# Altium schematic symbol library Schlibv0.5.SchLib: 32 symbols
Pins are listed as number, name and electrical type; pins without a type are passive.

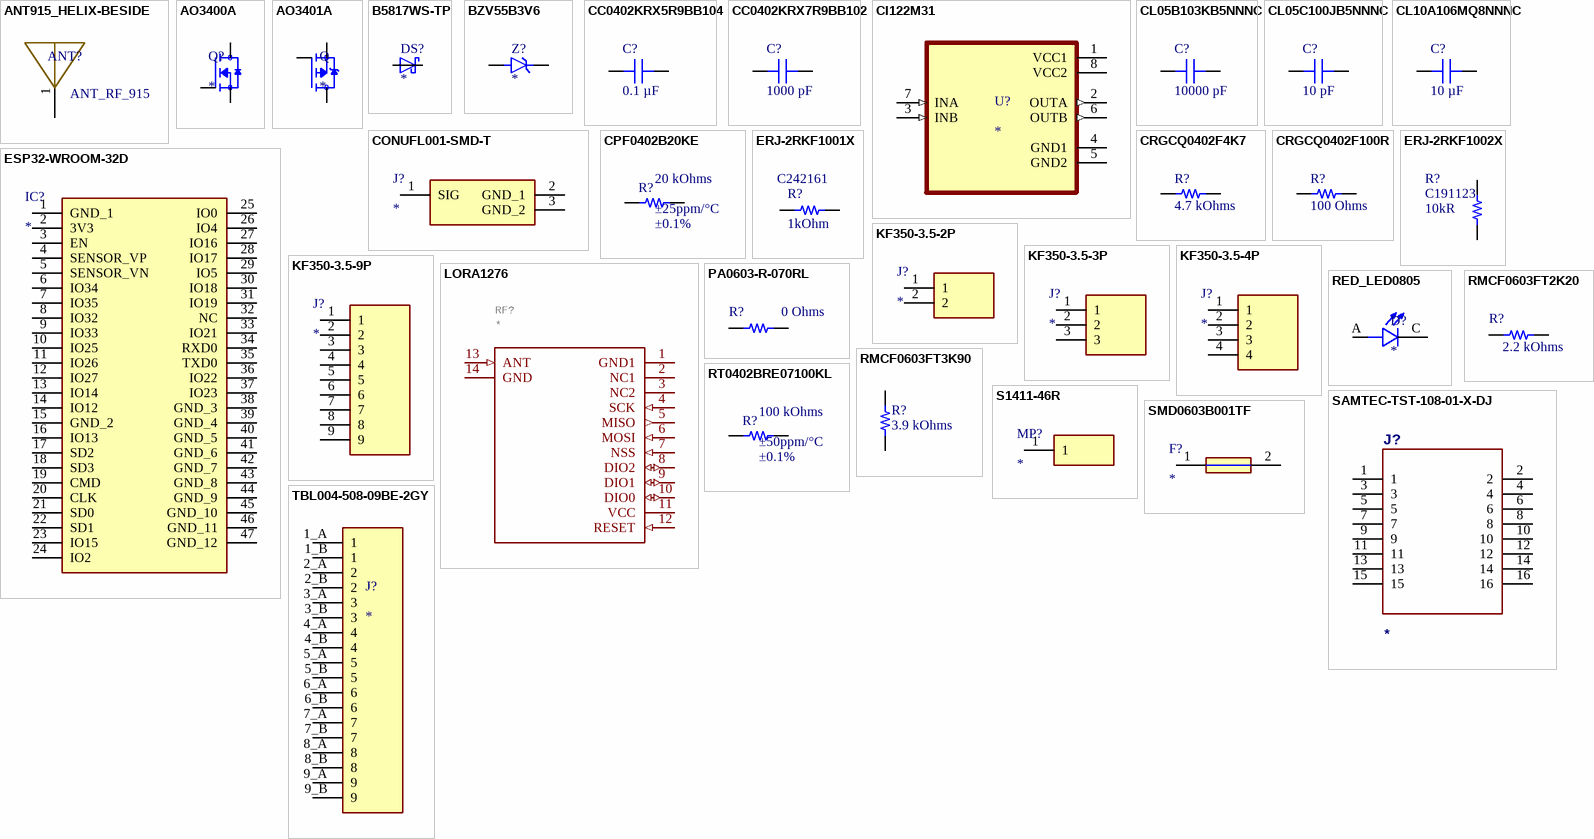
[diagram p0: symbols ANT915_HELIX-BESIDE to TBL004-508-09BE-2GY]

## ANT915_HELIX-BESIDE
designator ANT?, comment value ANT_RF_915  (hidden comment: Antena RF 916 MHz LoRa)
Antena usada para RF 915 MHz LoRa
footprint ANT915-HELIX_BESIDE (Antena Helicoidal 915 MHz LoRa De Lado)
pins: 1

## AO3400A
designator Q?
Trans MOSFET N-CH 30V 5.7A 3-Pin SOT-23; MP: AO3400A; Package: None; Price: None; Availability: Unavailable; Value: *
footprint SOT-23-3
pins: 1 G, 2 S, 3 D

## AO3401A
designator Q
P-Channel 30V 4A _Ta_ 1.4W _Ta_ Surface Mount SOT-23-3L; MF: Alpha &; MP: AO3401A; Package: SOT-23 Alpha &amp; Omega Semiconductor; Value: *; Availability: Unavailable; SnapEDA_Link: https://www.snapeda.com/parts/AO3401A/Alpha%20&%20Omega%20Semiconductor%20Inc./view-part/227978/?ref=snap; Price: None
footprint SOT-23-3
pins: 1 G, 2 S, 3 D

## B5817WS-TP
designator DS?
Diode Schottky 20 V 1A Surface Mount SOD-323; MF: Micro Commercial; MP: B5817WS-TP; Purchase-URL: https://pricing.snapeda.com/search/part/B5817WS-TP/?ref=eda; Value: *; SnapEDA_Link: https://www.snapeda.com/parts/B5817WS-TP/Micro+Commercial/view-part/?ref=snap; Package: SOD-323 Micro Commercial Co; Price: None; Availability: In Stock; Check_prices: https://www.snapeda.com/parts/B5817WS-TP/Micro+Commercial/view-part/?ref=eda
footprint SOD-323
pins: AN A, CATH C

## BZV55B3V6
designator Z?
Diode Zener 3V6 MMELF; MP: BZV55B3V6_L1G; Availability: Unavailable; Value: *; Package: None; Price: None
footprint MMELF-2
pins: A, C K

## CC0402KRX5R9BB104
designator C?, comment 0.1 µF
CAP CER 0.1UF 50V X5R 0402; Part Number: CC0402KRX5R9BB104; manufacturer: Yageo; Tolerance: ±10%; Applications: General Purpose; Capacitance: 0.1 µF; componentlink1description: Datasheet; componentlink1url: https://www.yageo.com/upload/media/product/productsearch/datasheet/mlcc/UPY-GPHC_X5R_4V-to-50V_25.pdf; componentlink2description: DigiKey Link; componentlink2url: https://www.digikey.com/en/products/detail/yageo/CC0402KRX5R9BB104/5883338; Device Package: 0402 (1005 Metric); lastupdated: 01/09/2022 12:30:20; Lifecycle Status: Active; Minimum Order: 1; Mounting Type: Surface Mount, MLCC; Operating Temperature: -55°C ~ 85°C; Package / Case: 0402 (1005 Metric); packaging: TapeAndReel; partid: 12665; Part Status: Active; price: 0.01; series: CC; Size / Dimension: 0.039" L x 0.020" W (1.00mm x 0.50mm); Supplier 1: DigiKey; Supplier Part Number 1: 311-3342-1-ND; Temperature Coefficient: X5R; Thickness (Max): 0.022" (0.55mm); Voltage - Rated: 50V; Value: 0.1 µF
footprint CAP 0402_1005 (Chip Capacitor, 2-Leads, Body 1.02x0.51mm, IPC Medium Density)
pins: 1, 2

## CC0402KRX7R9BB102
designator C?, comment 1000 pF
CAP CER 1000PF 50V X7R 0402; Part Number: CC0402KRX7R9BB102; manufacturer: Yageo; Tolerance: ±10%; Applications: General Purpose; Capacitance: 1000 pF; componentlink1description: Datasheet; componentlink1url: https://www.yageo.com/upload/media/product/productsearch/datasheet/mlcc/UPY-GPHC_X7R_6.3V-to-50V_18.pdf; componentlink2description: DigiKey Link; componentlink2url: https://www.digikey.com/en/products/detail/yageo/CC0402KRX7R9BB102/302770; Device Package: 0402 (1005 Metric); lastupdated: 01/09/2022 12:30:42; Lifecycle Status: Active; Minimum Order: 1; Mounting Type: Surface Mount, MLCC; Operating Temperature: -55°C ~ 125°C; Package / Case: 0402 (1005 Metric); packaging: CutTape; partid: 4791; Part Status: Active; price: 0.01; series: CC; Size / Dimension: 0.039" L x 0.020" W (1.00mm x 0.50mm); Supplier 1: DigiKey; Supplier Part Number 1: 311-1036-1-ND; Temperature Coefficient: X7R; Thickness (Max): 0.022" (0.55mm); Voltage - Rated: 50V; Value: 1000 pF
footprint CAP 0402_1005 (Chip Capacitor, 2-Leads, Body 1.02x0.51mm, IPC Medium Density)
pins: 1, 2

## CI122M31
designator U?
Dual-channel, 1/1, 10-Mbps digital isolator 8-SOIC -40 to 125; MP: ISO7421D; MF: Texas Instruments; Package: SOIC-8 Texas Instruments; Check_prices: https://www.snapeda.com/parts/ISO7421D/Texas%20Instruments/view-part/360032/?ref=eda; Value: *; SnapEDA_Link: https://www.snapeda.com/parts/ISO7421D/Texas%20Instruments/view-part/360032/?ref=snap; Availability: Good; Price: None; Purchase-URL: https://pricing.snapeda.com/search/part/ISO7421D/?ref=eda
footprint SOIC127P599X175-8N
pins: 1 VCC1 (power), 2 OUTA (out), 3 INB (in), 4 GND1 (power), 5 GND2 (power), 6 OUTB (out), 7 INA (in), 8 VCC2 (power)

## CL05B103KB5NNNC
designator C?, comment 10000 pF
CAP CER 10000PF 50V X7R 0402; Part Number: CL05B103KB5NNNC; manufacturer: Samsung Electro-Mechanics; Tolerance: ±10%; Applications: General Purpose; Capacitance: 10000 pF; componentlink1description: Datasheet; componentlink1url: http://www.samsungsem.com/kr/support/product-search/mlcc/CL05B103KB5NNNC.jsp; componentlink2description: DigiKey Link; componentlink2url: https://www.digikey.com/en/products/detail/samsung-electro-mechanics/CL05B103KB5NNNC/3886686; Device Package: 0402 (1005 Metric); lastupdated: 01/09/2022 12:30:39; Lifecycle Status: Active; Minimum Order: 1; Mounting Type: Surface Mount, MLCC; Operating Temperature: -55°C ~ 125°C; Package / Case: 0402 (1005 Metric); packaging: CutTape; partid: 6060; Part Status: Active; price: 0.01; series: CL; Size / Dimension: 0.039" L x 0.020" W (1.00mm x 0.50mm); Supplier 1: DigiKey; Supplier Part Number 1: 1276-1028-1-ND; Temperature Coefficient: X7R; Thickness (Max): 0.022" (0.55mm); Voltage - Rated: 50V; Value: 10000 pF
footprint CAP 0402_1005 (Chip Capacitor, 2-Leads, Body 1.02x0.51mm, IPC Medium Density)
pins: 1, 2

## CL05C100JB5NNNC
designator C?, comment 10 pF
CAP CER 10PF 50V C0G/NP0 0402; Part Number: CL05C100JB5NNNC; manufacturer: Samsung Electro-Mechanics; Temperature Coefficient: C0G, NP0; Tolerance: ±5%; Applications: General Purpose; Capacitance: 10 pF; componentlink1description: Datasheet; componentlink1url: http://www.samsungsem.com/kr/support/product-search/mlcc/CL05C100JB5NNNC.jsp; componentlink2description: DigiKey Link; componentlink2url: https://www.digikey.com/en/products/detail/samsung-electro-mechanics/CL05C100JB5NNNC/3886797; Device Package: 0402 (1005 Metric); lastupdated: 01/09/2022 12:30:39; Lifecycle Status: Active; Minimum Order: 1; Mounting Type: Surface Mount, MLCC; Operating Temperature: -55°C ~ 125°C; Package / Case: 0402 (1005 Metric); packaging: TapeAndReel; partid: 6120; Part Status: Active; price: 0.01; series: CL; Size / Dimension: 0.039" L x 0.020" W (1.00mm x 0.50mm); Supplier 1: DigiKey; Supplier Part Number 1: 1276-1139-1-ND; Thickness (Max): 0.022" (0.55mm); Voltage - Rated: 50V; Value: 10 pF
footprint CAP 0402_1005 (Chip Capacitor, 2-Leads, Body 1.02x0.51mm, IPC Medium Density)
pins: 1, 2

## CL10A106MQ8NNNC
designator C?, comment 10 µF
CAP CER 10UF 6.3V X5R 0603; Part Number: CL10A106MQ8NNNC; manufacturer: Samsung Electro-Mechanics; Tolerance: ±20%; Applications: General Purpose; Capacitance: 10 µF; componentlink1description: Datasheet; componentlink1url: http://www.samsungsem.com/kr/support/product-search/mlcc/CL10A106MQ8NNNC.jsp; componentlink2description: DigiKey Link; componentlink2url: https://www.digikey.com/en/products/detail/samsung-electro-mechanics/CL10A106MQ8NNNC/3886777; Device Package: 0603 (1608 Metric); lastupdated: 01/09/2022 12:33:58; Lifecycle Status: Active; Minimum Order: 1; Mounting Type: Surface Mount, MLCC; Operating Temperature: -55°C ~ 85°C; Package / Case: 0603 (1608 Metric); packaging: TapeAndReel; partid: 39822; Part Status: Active; price: 0.01; series: CL; Size / Dimension: 0.063" L x 0.031" W (1.60mm x 0.80mm); Supplier 1: DigiKey; Supplier Part Number 1: 1276-1119-1-ND; Temperature Coefficient: X5R; Thickness (Max): 0.035" (0.90mm); Voltage - Rated: 6.3V; Value: 10 µF
footprint CAP 1206_3216 (Chip Capacitor, 2-Leads, Body 3.25x1.60mm, IPC Medium Density)
pins: 1, 2

## CONUFL001-SMD-T
designator J?
Connector; Manufacturer_Name: Linx Technologies; Manufacturer_Part_Number: CONUFL001-SMD-T; Datasheet Link: https://componentsearchengine.com//CONUFL001-SMD-T.pdf; Mouser2 Part Number: 712-CONUFL001-SMD-T; Mouser2 Price/Stock: https://www.mouser.com/Search/Refine.aspx?Keyword=712-CONUFL001-SMD-T
footprint CONUFL001-SMD
pins: 1 SIG, 2 GND_1, 3 GND_2

## CPF0402B20KE
designator R?, comment Temperature Coefficient: ±25ppm/°C  Tolerance: ±0.1%  (hidden comment: 20 kOhms)
RES SMD 20K OHM 0.1% 1/16W 0402; Part Number: CPF0402B20KE; Manufacturer: TE Connectivity Passive Product; Power (Watts): 0.063W, 1/16W; ComponentLink1Description: Datasheet; ComponentLink1URL: https://www.te.com/commerce/DocumentDelivery/DDEController?Action=srchrtrv&DocNm=1773200&DocType=DS&DocLang=English; ComponentLink2Description: DigiKey Link; ComponentLink2URL: https://www.digikey.com/en/products/detail/te-connectivity-passive-product/CPF0402B20KE/2381755; Composition: Thin Film; Device Package: 0402 (1005 Metric); Height - Seated (Max): 0.014" (0.35mm); LastUpdated: 01/09/2022 12:46:57; Lifecycle Status: Active; Minimum Order: 1; Number of Terminations: 2; Operating Temperature: -55°C ~ 155°C; Package / Case: 0402 (1005 Metric); Packaging: TapeAndReel; PartId: 2476; Part Status: Active; Price: 0.10; Resistance: 20 kOhms; Series: CPF, Neohm; Size / Dimension: 0.039" L x 0.020" W (1.00mm x 0.50mm); Supplier 1: DigiKey; Supplier Part Number 1: A119914CT-ND; Supplier Device Package: 0402; Value: 20 kOhms
footprint RES0402PRECISION
pins: 1, 2

## CRGCQ0402F4K7
designator R?, comment 4.7 kOhms
RES 4.7K OHM 1% 1/16W 0402; Part Number: CRGCQ0402F4K7; Manufacturer: TE Connectivity Passive Product; Power (Watts): 0.063W, 1/16W; Temperature Coefficient: ±100ppm/°C; ComponentLink1Description: Datasheet; ComponentLink1URL: https://www.te.com/commerce/DocumentDelivery/DDEController?Action=srchrtrv&DocNm=1773204-3&DocType=DS&DocLang=English; ComponentLink2Description: DigiKey Link; ComponentLink2URL: https://www.digikey.com/en/products/detail/te-connectivity-passive-product/CRGCQ0402F4K7/8576237; Composition: Thick Film; Device Package: 0402 (1005 Metric); Features: Automotive AEC-Q200, Moisture Resistant; Height - Seated (Max): 0.016" (0.40mm); LastUpdated: 01/09/2022 12:45:50; Lifecycle Status: Active; Minimum Order: 1; Number of Terminations: 2; Operating Temperature: -55°C ~ 155°C; Package / Case: 0402 (1005 Metric); Packaging: CutTape; PartId: 20629; Part Status: Active; Price: 0.01; Ratings: AEC-Q200; Resistance: 4.7 kOhms; Series: CRGCQ; Size / Dimension: 0.039" L x 0.020" W (1.00mm x 0.50mm); Supplier 1: DigiKey; Supplier Part Number 1: A129635CT-ND; Supplier Device Package: 0402; Tolerance: ±1%; Value: 4.7 kOhms
footprint RES0402TXT
pins: 1, 2

## CRGCQ0402F100R
designator R?, comment 100 Ohms
RES 100 OHM 1% 1/16W 0402; Part Number: CRGCQ0402F100R; Manufacturer: TE Connectivity Passive Product; Power (Watts): 0.063W, 1/16W; Temperature Coefficient: ±200ppm/°C; ComponentLink1Description: Datasheet; ComponentLink1URL: https://www.te.com/commerce/DocumentDelivery/DDEController?Action=srchrtrv&DocNm=1773204-3&DocType=DS&DocLang=English; ComponentLink2Description: DigiKey Link; ComponentLink2URL: https://www.digikey.com/en/products/detail/te-connectivity-passive-product/CRGCQ0402F100R/8576217; Composition: Thick Film; Device Package: 0402 (1005 Metric); Features: Automotive AEC-Q200, Moisture Resistant; Height - Seated (Max): 0.016" (0.40mm); LastUpdated: 01/09/2022 12:45:49; Lifecycle Status: Active; Minimum Order: 1; Number of Terminations: 2; Operating Temperature: -55°C ~ 155°C; Package / Case: 0402 (1005 Metric); Packaging: CutTape; PartId: 20683; Part Status: Active; Price: 0.01; Ratings: AEC-Q200; Series: CRGCQ; Size / Dimension: 0.039" L x 0.020" W (1.00mm x 0.50mm); Supplier 1: DigiKey; Supplier Part Number 1: A129615CT-ND; Supplier Device Package: 0402; Tolerance: ±1%; Resistance: 100 Ohms; Value: 100 Ohms
footprint RES0402TXT
pins: 1, 2

## ERJ-2RKF1001X
designator R?  Supplier Part Number 1: C242161  Resistance: 1kOhm
RES SMD 1K OHM  50V 1% 1/10W 0402; Manufacturer 1: Panasonic; Manufacturer Part Number 1: ERJ-2RKF1001X; Category 1: Chip SMD Resistors; Power Rating: 100mW; Temperature Coefficient: 100ppm/°C; ComponentLink1Description: Datasheet; ComponentLink1URL: https://www.te.com/commerce/DocumentDelivery/DDEController?Action=srchrtrv&DocNm=1773204-3&DocType=DS&DocLang=English; ComponentLink2Description: DigiKey Link; ComponentLink2URL: https://www.digikey.com/en/products/detail/te-connectivity-passive-product/CRGCQ0402F820R/8576228; Supplier 1: LCSC; RoHS: Yes; Stock 1: 501400; Pricing 1: 50=0,006100, 500=0,004900, 1500=0,004200, 5000=0,003700, 25000=0,003400, 50000=0,003200 (AUD); Mount: Surface Mount; Case/Package: 0402; Number of Pins: 2; Case Code (Imperial): 0402; Case Code (Metric): 1005; Contact Plating: Tin; Min Operating Temperature: -55°C; Max Operating Temperature: 155°C; Tolerance: 1%; Packaging: Tape and Reel; Voltage Rating: 50V; Termination: SMD/SMT; Resistor Type: Thick Film; Number of Terminations: 2; Max Power Dissipation: 100mW; Series: ERJ; Resistance Tolerance: 1%; Construction: Rectangular; Package Quantity: 1; Features: Automotive AEC-Q200; Technology: THICK FILM; Voltage Rating (DC): 50V; Working Voltage: 50V; Length: 1mm; Width: 0.5mm; Height: 0.35mm; Depth: 0.5mm; Radiation Hardening: No; REACH SVHC: Yes; Military Standard: Not; RoHS Compliant: Yes; Lead Free: Lead Free
footprint RES0402TXT
pins: 1, 2

## ERJ-2RKF1002X
designator R?  Supplier Part Number 1: C191123  Resistance: 10kR
Res Thick Film 0402 10K Ohm 1% 1/10W ±100ppm/°C Molded SMD Punched Carrier T/R; Manufacturer 1: Panasonic; Manufacturer Part Number 1: ERJ-2RKF1002X; Category 1: Chip SMD Resistors; Power Rating: 100mW; Voltage Rating: 50V; ComponentLink1Description: Datasheet; ComponentLink1URL: https://www.te.com/commerce/DocumentDelivery/DDEController?Action=srchrtrv&DocNm=1773204-3&DocType=DS&DocLang=English; ComponentLink2Description: DigiKey Link; ComponentLink2URL: https://www.digikey.com/en/products/detail/te-connectivity-passive-product/CRGCQ0402F10K/8576241; Supplier 1: LCSC; RoHS: Yes; Stock 1: 285350; Pricing 1: 50=0,006800, 500=0,005400, 1500=0,004700, 5000=0,004200, 25000=0,003800, 50000=0,003600 (AUD); Mount: Surface Mount; Case/Package: 0402; Number of Pins: 2; Case Code (Metric): 1005; Case Code (Imperial): 0402; Contact Plating: Tin; Min Operating Temperature: -55°C; Max Operating Temperature: 155°C; Tolerance: 1%; Packaging: Tape and Reel; Package Quantity: 1; Resistor Type: Thick Film; Number of Terminations: 2; Termination: SMD/SMT; Temperature Coefficient: 100ppm/°C; Max Power Dissipation: 100mW; Voltage Rating (DC): 50V; Features: Automotive AEC-Q200; Length: 0.039inch; Width: 0.02inch; Height: 0.35mm; Depth: 0.5mm; Height - Seated (Max): 0.016inch; Radiation Hardening: No; REACH SVHC: No SVHC; Military Standard: Not; Lead Free: Lead Free; RoHS Compliant: Yes; ComponentLink3URL: https://datasheet.ciiva.com/11821/0900766b80f80784-11821171.pdf?src-supplier=RSComponents; ComponentLink3Description: https://datasheet.ciiva.com/11821/0900766b80f80784-11821171.pdf?src-supplier=RSComponents; ComponentLink4URL: https://datasheet.ciiva.com/27055/1987020-27055643.pdf?src-supplier=Jameco; ComponentLink4Description: https://datasheet.ciiva.com/27055/1987020-27055643.pdf?src-supplier=Jameco; ComponentLink5URL: https://datasheet.ciiva.com/43467/1678782-43467402.pdf?src-supplier=Farnell; ComponentLink5Description: https://datasheet.ciiva.com/43467/1678782-43467402.pdf?src-supplier=Farnell; ComponentLink6URL: https://datasheet.ciiva.com/28514/1678782-28514185.pdf?src-supplier=Element14; ComponentLink6Description: https://datasheet.ciiva.com/28514/1678782-28514185.pdf?src-supplier=Element14; ComponentLink7URL: https://datasheet.ciiva.com/24023/aoa0000ce2-24023017.pdf?src-supplier=Mouser; ComponentLink7Description: https://datasheet.ciiva.com/24023/aoa0000ce2-24023017.pdf?src-supplier=Mouser; ComponentLink8URL: https://datasheet.ciiva.com/16782/70260748-16782590.pdf?src-supplier=Allied+Electronics; ComponentLink8Description: https://datasheet.ciiva.com/16782/70260748-16782590.pdf?src-supplier=Allied+Electronics; ComponentLink9URL: https://datasheet.ciiva.com/16786/70260748-16786734.pdf?src-supplier=Allied+Electronics; ComponentLink9Description: https://datasheet.ciiva.com/16786/70260748-16786734.pdf?src-supplier=Allied+Electronics; ComponentLink10URL: https://datasheet.ciiva.com/9194/aoa0000ce2-9194142.pdf?src-supplier=Avnet; ComponentLink10Description: https://datasheet.ciiva.com/9194/aoa0000ce2-9194142.pdf?src-supplier=Avnet; ComponentLink11URL: https://datasheet.ciiva.com/16199/aoa0000ce2-16199478.pdf?src-supplier=Future+Electronics; ComponentLink11Description: https://datasheet.ciiva.com/16199/aoa0000ce2-16199478.pdf?src-supplier=Future+Electronics
footprint RES0402TXT
pins: 1, 2

## ESP32-WROOM-32D
designator IC?
Integrated Circuit MCU; Manufacturer_Name: Espressif Systems; Manufacturer_Part_Number: ESP32-WROOM-32D (4MB); Datasheet Link: https://componentsearchengine.com/Datasheets/1/ESP32-WROOM-32D (4MB).pdf; Height: 3.2mm; Mouser Part Number: 356-ESP32WROOM-32D; Mouser Price/Stock: https://www.mouser.co.uk/ProductDetail/Espressif-Systems/ESP32-WROOM-32D-4MB?qs=GBLSl2AkirvkALo4fyKM5Q%3D%3D
footprint ESP32WROOM32D
pins: 1 GND_1, 2 3V3, 3 EN, 4 SENSOR_VP, 5 SENSOR_VN, 6 IO34, 7 IO35, 8 IO32, 9 IO33, 10 IO25, 11 IO26, 12 IO27, 13 IO14, 14 IO12, 15 GND_2, 16 IO13, 17 SD2, 18 SD3, 19 CMD, 20 CLK, 21 SD0, 22 SD1, 23 IO15, 24 IO2, 25 IO0, 26 IO4, 27 IO16, 28 IO17, 29 IO5, 30 IO18, 31 IO19, 32 NC, 33 IO21, 34 RXD0, 35 TXD0, 36 IO22, 37 IO23, 38 GND_3, 39 GND_4, 40 GND_5, 41 GND_6, 42 GND_7, 43 GND_8, 44 GND_9, 45 GND_10, 46 GND_11, 47 GND_12

## KF350-3.5-2P
designator J?
Connector; Manufacturer_Name: CIXI KEFA ELECTRONICS; Manufacturer_Part_Number: KF350-3.5-3P; Datasheet Link: https://datasheet.lcsc.com/szlcsc/2001152331_Cixi-Kefa-Elec-KF350-3-5-3P_C474893.pdf; Height: 8.8mm
footprint KF350-3.5-2P
pins: 1, 2

## KF350-3.5-3P
designator J?
Connector; Manufacturer_Name: CIXI KEFA ELECTRONICS; Manufacturer_Part_Number: KF350-3.5-3P; Datasheet Link: https://datasheet.lcsc.com/szlcsc/2001152331_Cixi-Kefa-Elec-KF350-3-5-3P_C474893.pdf; Height: 8.8mm
footprint KF350-3.5-3P
pins: 1, 2, 3

## KF350-3.5-4P
designator J?
Connector; Manufacturer_Name: CIXI KEFA ELECTRONICS; Manufacturer_Part_Number: KF350-3.5-3P; Datasheet Link: https://datasheet.lcsc.com/szlcsc/2001152331_Cixi-Kefa-Elec-KF350-3-5-3P_C474893.pdf; Height: 8.8mm
footprint KF350-3.5-4P
pins: 1, 2, 3, 4

## KF350-3.5-9P
designator J?
Connector; Manufacturer_Name: CIXI KEFA ELECTRONICS; Manufacturer_Part_Number: KF350-3.5-3P; Datasheet Link: https://datasheet.lcsc.com/szlcsc/2001152331_Cixi-Kefa-Elec-KF350-3-5-3P_C474893.pdf; Height: 8.8mm
footprint KF350-3.5-9P
pins: 1, 2, 3, 4, 5, 6, 7, 8, 9

## LORA1276
designator RF?
RF Module LoRa; GateName_1: G$1; SymbolName_1: LORA1276_BOTTOM; DeviceSetName: LORA1276_TOP; LibraryName: lora1276; Package: LORA1276_TOP
footprint LORA1276
pins: 1 GND1 (power), 2 NC1, 3 NC2, 4 SCK (in), 5 MISO (out), 6 MOSI (in), 7 NSS (in), 8 DIO2 (io), 9 DIO1 (io), 10 DIO0 (io), 11 VCC (power), 12 RESET (in), 13 ANT (in), 14 GND (power)

## PA0603-R-070RL
designator R?, comment 0 Ohms
RES 0 OHM JUMPER 1/10W 0603; Part Number: PA0603-R-070RL; Manufacturer: Yageo; Power (Watts): 0.1W, 1/10W; Temperature Coefficient: ±150ppm/°C; ComponentLink1Description: Datasheet; ComponentLink1URL: http://www.yageo.com/NewPortal/_en/search/productDocs.jsp?YageoPartNumber=PA0603-R-070RL; ComponentLink2Description: DigiKey Link; ComponentLink2URL: https://www.digikey.com/en/products/detail/yageo/PA0603-R-070RL/8255972; Composition: Metal Element; Device Package: 0603 (1608 Metric); Features: Automotive AEC-Q200, Current Sense; Height - Seated (Max): 0.024" (0.60mm); LastUpdated: 11/09/2022 10:02:31; Lifecycle Status: Active; Minimum Order: 1; Number of Terminations: 2; Operating Temperature: -55°C ~ 155°C; Package / Case: 0603 (1608 Metric); Packaging: TapeAndReel; PartId: 4862; Part Status: Active; Price: 0.08; Resistance: 0 Ohms; Series: PA; Size / Dimension: 0.063" L x 0.031" W (1.60mm x 0.80mm); Supplier 1: DigiKey; Supplier Part Number 1: YAG5757CT-ND; Supplier Device Package: 0603; Tolerance: Jumper; Value: 0 Ohms
footprint RES0603TXT
pins: 1, 2

## RED_LED0805
designator D?
Red 633nm LED Indication - Discrete 2.1V 0805 (2012 Metric); MP: 5990110007F; Package: None; Price: None; Value: *; Availability: Unavailable
footprint LEDSC125X200X90-2N
pins: A, C

## RMCF0603FT2K20
designator R?, comment 2.2 kOhms
RES 2.2K OHM 1% 1/10W 0603; Part Number: RMCF0603FT2K20; Manufacturer: Stackpole Electronics Inc; Power (Watts): 0.1W, 1/10W; Temperature Coefficient: ±100ppm/°C; ComponentLink1Description: Datasheet; ComponentLink1URL: https://www.seielect.com/catalog/sei-packaging.pdf; ComponentLink2Description: DigiKey Link; ComponentLink2URL: https://www.digikey.com/en/products/detail/stackpole-electronics-inc/RMCF0603FT2K20/1760987; Composition: Thick Film; Device Package: 0603 (1608 Metric); Features: Automotive AEC-Q200; Height - Seated (Max): 0.022" (0.55mm); LastUpdated: 11/09/2022 10:02:27; Lifecycle Status: Active; Minimum Order: 1; Number of Terminations: 2; Operating Temperature: -55°C ~ 155°C; Package / Case: 0603 (1608 Metric); Packaging: CutTape; PartId: 6089; Part Status: Active; Price: 0.01; Ratings: AEC-Q200; Resistance: 2.2 kOhms; Series: RMCF; Size / Dimension: 0.061" L x 0.031" W (1.55mm x 0.80mm); Supplier 1: DigiKey; Supplier Part Number 1: RMCF0603FT2K20CT-ND; Supplier Device Package: 0603; Tolerance: ±1%; Value: 2.2 kOhms
footprint RES0603TXT
pins: 1, 2

## RMCF0603FT3K90
designator R?, comment 3.9 kOhms
RES 3.9K OHM 1% 1/10W 0603; Part Number: RMCF0603FT3K90; Manufacturer: Stackpole Electronics Inc; Power (Watts): 0.1W, 1/10W; Temperature Coefficient: ±100ppm/°C; ComponentLink1Description: Datasheet; ComponentLink1URL: https://www.seielect.com/catalog/sei-rmcf_rmcp.pdf; ComponentLink2Description: DigiKey Link; ComponentLink2URL: https://www.digikey.com/en/products/detail/stackpole-electronics-inc/RMCF0603FT3K90/1713908; Composition: Thick Film; Device Package: 0603 (1608 Metric); Features: Automotive AEC-Q200; Height - Seated (Max): 0.022" (0.55mm); LastUpdated: 11/09/2022 10:02:11; Lifecycle Status: Active; Minimum Order: 1; Number of Terminations: 2; Operating Temperature: -55°C ~ 155°C; Package / Case: 0603 (1608 Metric); Packaging: CutTape; PartId: 10756; Part Status: Active; Price: 0.01; Ratings: AEC-Q200; Resistance: 3.9 kOhms; Series: RMCF; Size / Dimension: 0.061" L x 0.031" W (1.55mm x 0.80mm); Supplier 1: DigiKey; Supplier Part Number 1: RMCF0603FT3K90CT-ND; Supplier Device Package: 0603; Tolerance: ±1%; Value: 3.9 kOhms
footprint RES0603TXT
pins: 1, 2

## RT0402BRE07100KL
designator R?, comment Tolerance: ±0.1%  Temperature Coefficient: ±50ppm/°C  (hidden comment: 100 kOhms)
RES SMD 100K OHM 0.1% 1/16W 0402; Part Number: RT0402BRE07100KL; Manufacturer: Yageo; Power (Watts): 0.063W, 1/16W; ComponentLink1Description: Datasheet; ComponentLink1URL: https://www.yageo.com/upload/media/product/productsearch/datasheet/rchip/PYu-RT_1-to-0.01_RoHS_L_11.pdf; ComponentLink2Description: DigiKey Link; ComponentLink2URL: https://www.digikey.com/en/products/detail/yageo/RT0402BRE07100KL/1069443; Composition: Thin Film; Device Package: 0402 (1005 Metric); Height - Seated (Max): 0.014" (0.35mm); LastUpdated: 01/09/2022 12:46:25; Lifecycle Status: Active; Minimum Order: 1; Number of Terminations: 2; Operating Temperature: -55°C ~ 155°C; Package / Case: 0402 (1005 Metric); Packaging: TapeAndReel; PartId: 11693; Part Status: Active; Price: 0.04; Resistance: 100 kOhms; Series: RT; Size / Dimension: 0.039" L x 0.020" W (1.00mm x 0.50mm); Supplier 1: DigiKey; Supplier Part Number 1: YAG2304CT-ND; Supplier Device Package: 0402; Value: 100 kOhms
footprint RES0402PRECISION
pins: 1, 2

## S1411-46R
designator MP?
Mechanical Part; Manufacturer_Name: Harwin; Manufacturer_Part_Number: S1411-46R; Datasheet Link: https://cdn.harwin.com/pdfs/S1411-46R.pdf; Height: 3.75mm
footprint S141146R
pins: 1

## SAMTEC-TST-108-01-X-DJ
designator J?
Header Box 90° 16 Way; GateName_1: A; SymbolName_1: SAMTEC-TST-108-01-X-DA; DeviceName: J; DeviceSetName: SAMTEC-TST-108-01-X-D; LibraryName: SAMTEC-TST-108-01-X-D; Package: SAMTEC-TST-108-01-X-D
footprint SAMTEC-TST-108-01-X-D
pins: 1, 2, 3, 4, 5, 6, 7, 8, 9, 10, 11, 12, 13, 14, 15, 16

## SMD0603B001TF
designator F?
Fuse; Manufacturer_Name: KEMET; Manufacturer_Part_Number: SMD0603B001TF; Datasheet Link: https://componentsearchengine.com/Datasheets/2/SMD0603B010TF.pdf; Height: 1mm; Mouser Part Number: 603-SMD0603B001TF; Mouser Price/Stock: https://www.mouser.co.uk/ProductDetail/YAGEO/SMD0603B010TF?qs=0lSvoLzn4L%2Ffi6FWq0Ul1w%3D%3D
footprint FUSC1608X100N
pins: 1, 2

## TBL004-508-09BE-2GY
designator J?
Terminal Block; MP: TBL004-508-09BE-2GY; Package: None; Price: None; Value: *; Availability: Unavailable
footprint TBL004-508-09BE-2GY
pins: 1_A 1, 1_B 1, 2_A 2, 2_B 2, 3_A 3, 3_B 3, 4_A 4, 4_B 4, 5_A 5, 5_B 5, 6_A 6, 6_B 6, 7_A 7, 7_B 7, 8_A 8, 8_B 8, 9_A 9, 9_B 9